# Altium integrated library TI Power Management Lighting and Display.IntLib: 745 symbols (part 7 of 48)
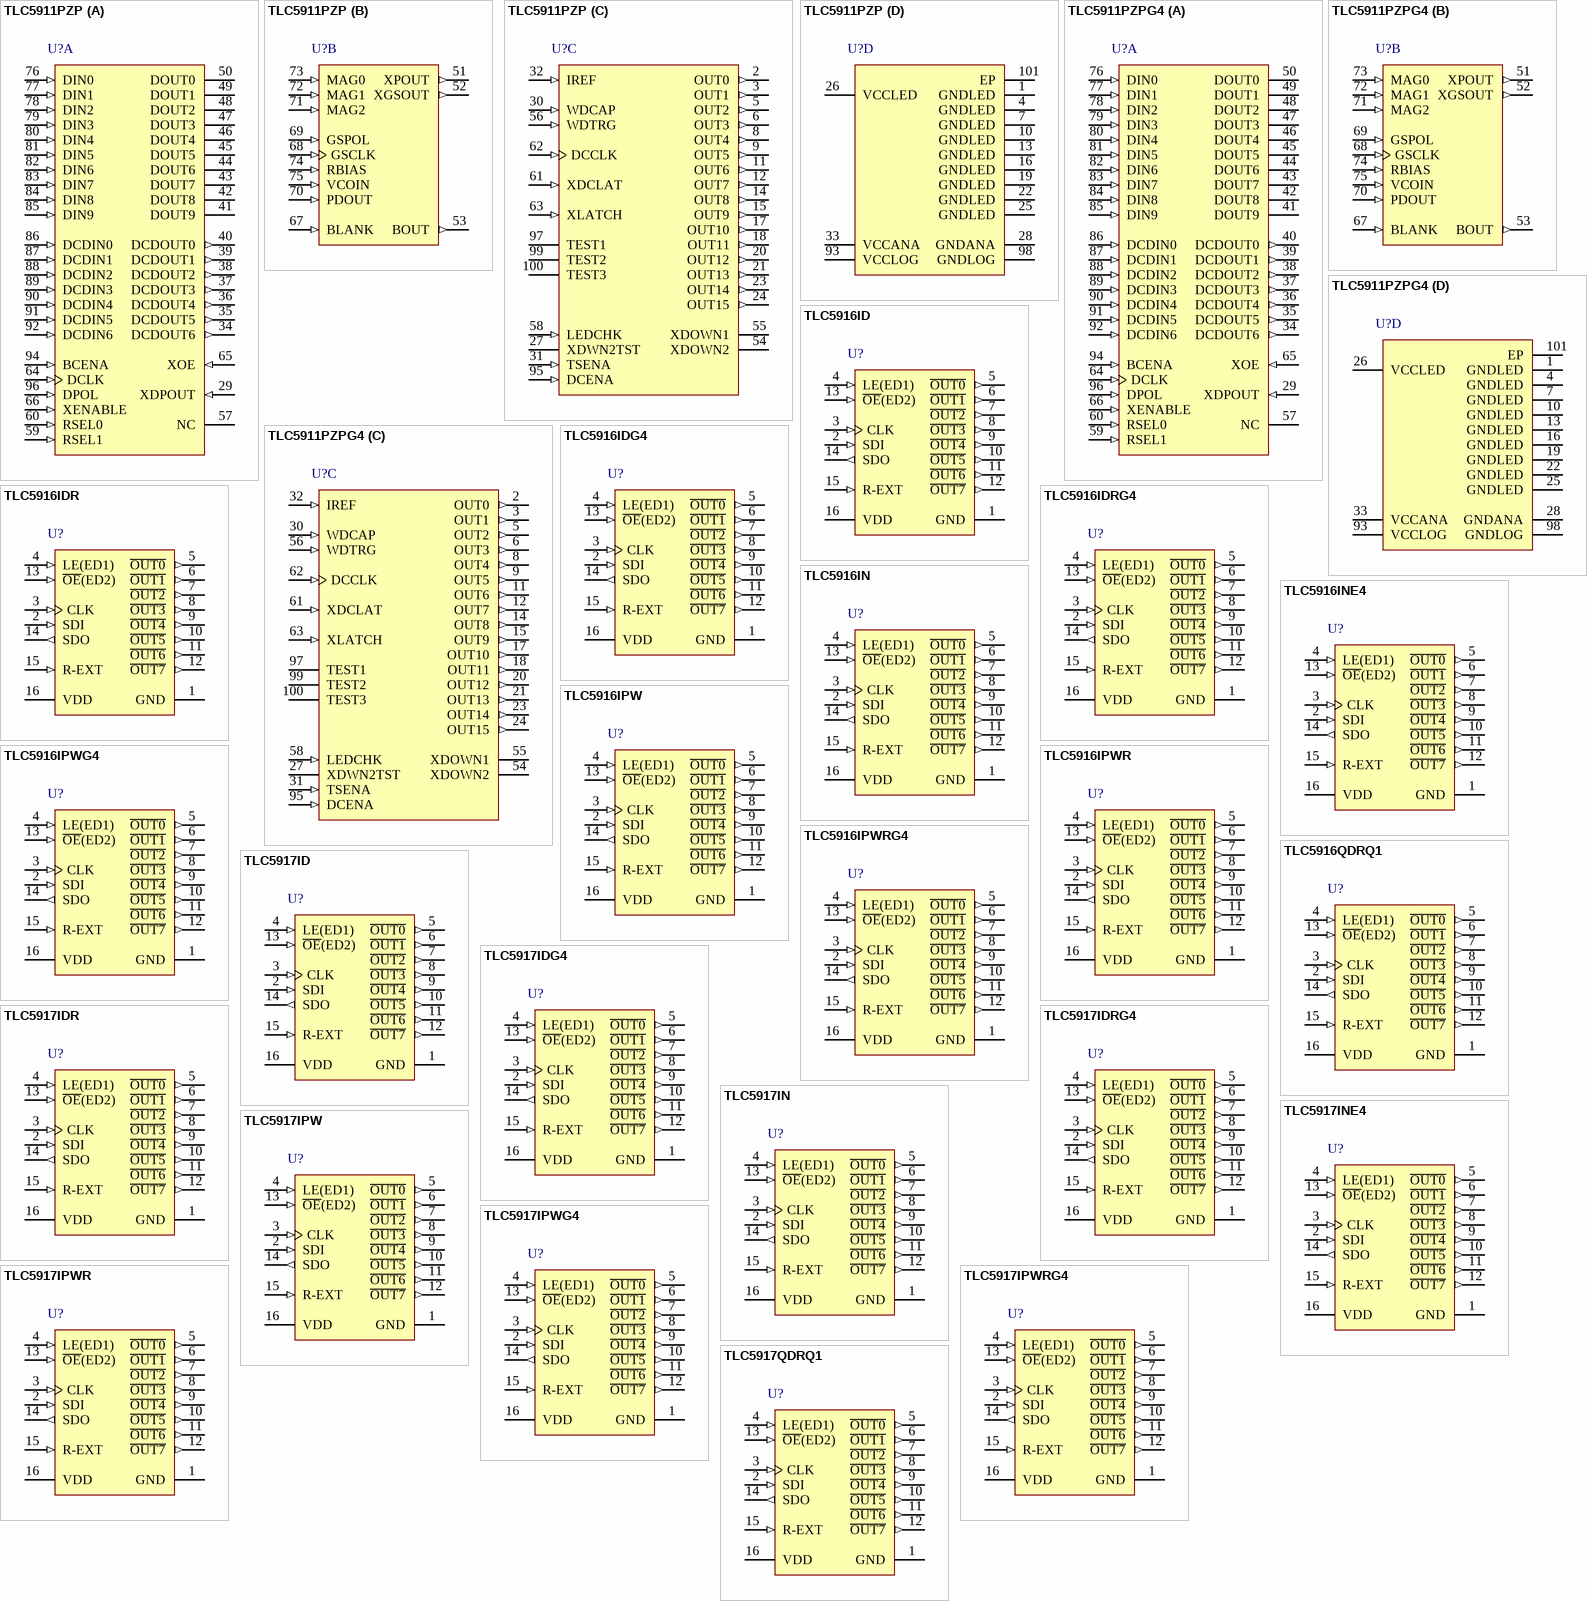
[diagram p37: symbols TLC5911PZP to TLC5917QDRQ1]

## TLC5917QDRQ1
designator U?
Automotive Catalog 8-Bit Constant-Current LED Sink Drivers, 3 to 5.5 V, -40 to 125 degC, 16-pin SOIC (D16), Green (RoHS & no Sb/Br); Manufacturer: Texas Instruments; PartNumber: TLC5917QDRQ1; Iout(Max)(A): 0.12; SubFamily: LED Driver; Vin(Max)(V): 5.5; Vin(Min)(V): 3; DatasheetVersion: SLVS814; PackageVersion: 4040047-6/M; PackageReference: D16; PackageDescription: 16-Pin Plastic Small Outline, Body 9.90 x 3.90 mm, Pitch 1.27 mm; Supplier 1: Digi-Key; Supplier Part Number 1: 296-23322-2-ND; Supplier 2: Digi-Key; Supplier Part Number 2: 296-23322-1-ND; Supplier 3: Digi-Key; Supplier Part Number 3: 296-23322-6-ND; Supplier 4: Newark; Supplier Part Number 4: 85M0146; Supplier 5: Mouser; Supplier Part Number 5: 595-TLC5917QDRQ1; Eco-Plan: Green (RoHS & no Sb/Br); Mounting Technology: Surface Mount; Code_JEDEC: MS-012; ComponentLink1Description: Manufacturer URL; ComponentLink1URL: http://www.ti.com/; ComponentLink2Description: Datasheet; ComponentLink2URL: http://www.ti.com/general/docs/lit/getliterature.tsp?genericPartNumber=TLC5917-Q1&fileType=pdf; ComponentLink3Description: Package Specification; ComponentLink3URL: http://www.ti.com/litv/pdf/mpds178g
footprint TI-D16_N (SOIC, 16-Leads, Body 9.9x3.9mm, Pitch 1.27mm, IPC Medium Density)
footprint TI-D16_L (SOIC, 16-Leads, Body 9.9x3.9mm, Pitch 1.27mm, IPC High Density)
footprint TI-D16_M (SOIC, 16-Leads, Body 9.9x3.9mm, Pitch 1.27mm, IPC Low Density)
pins: 1 GND (power) "Ground for control logic and current sink", 2 SDI (in) "Serial-data input to the Shift register", 3 CLK (in) "Clock input for data shift on rising edge", 4 LE(ED1) (in) "Data strobe input Serial data is transferred to the respective latch when LE(ED1) is high. The data is latched when LE(ED1) goes low. Also, a control signal input for an Error Detection Mode and Current Adjust Mode (see (See Datasheet)", 5 ~{OUT0} (out) "Constant-current output", 6 ~{OUT1} (out) "Constant-current output", 7 ~{OUT2} (out) "Constant-current output", 8 ~{OUT3} (out) "Constant-current output", 9 ~{OUT4} (out) "Constant-current output", 10 ~{OUT5} (out) "Constant-current output", 11 ~{OUT6} (out) "Constant-current output", 12 ~{OUT7} (out) "Constant-current output", 13 ~{OE}(ED2) (in) "Output enable. When O\E\(ED2) is active (low), the output drivers are enabled; when O\E\(ED2) is high, all output drivers are turned OFF (blanked). Also, a control signal input for an Error Detection Mode and Current Adjust (See Datasheet)", 14 SDO (out) "Serial-data output to the following SDI of next driver IC or to the microcontroller", 15 R-EXT (in) "External Resistor - Connect an external resistor to ground to set the current for all outputs", 16 VDD (power) "Supply voltage"

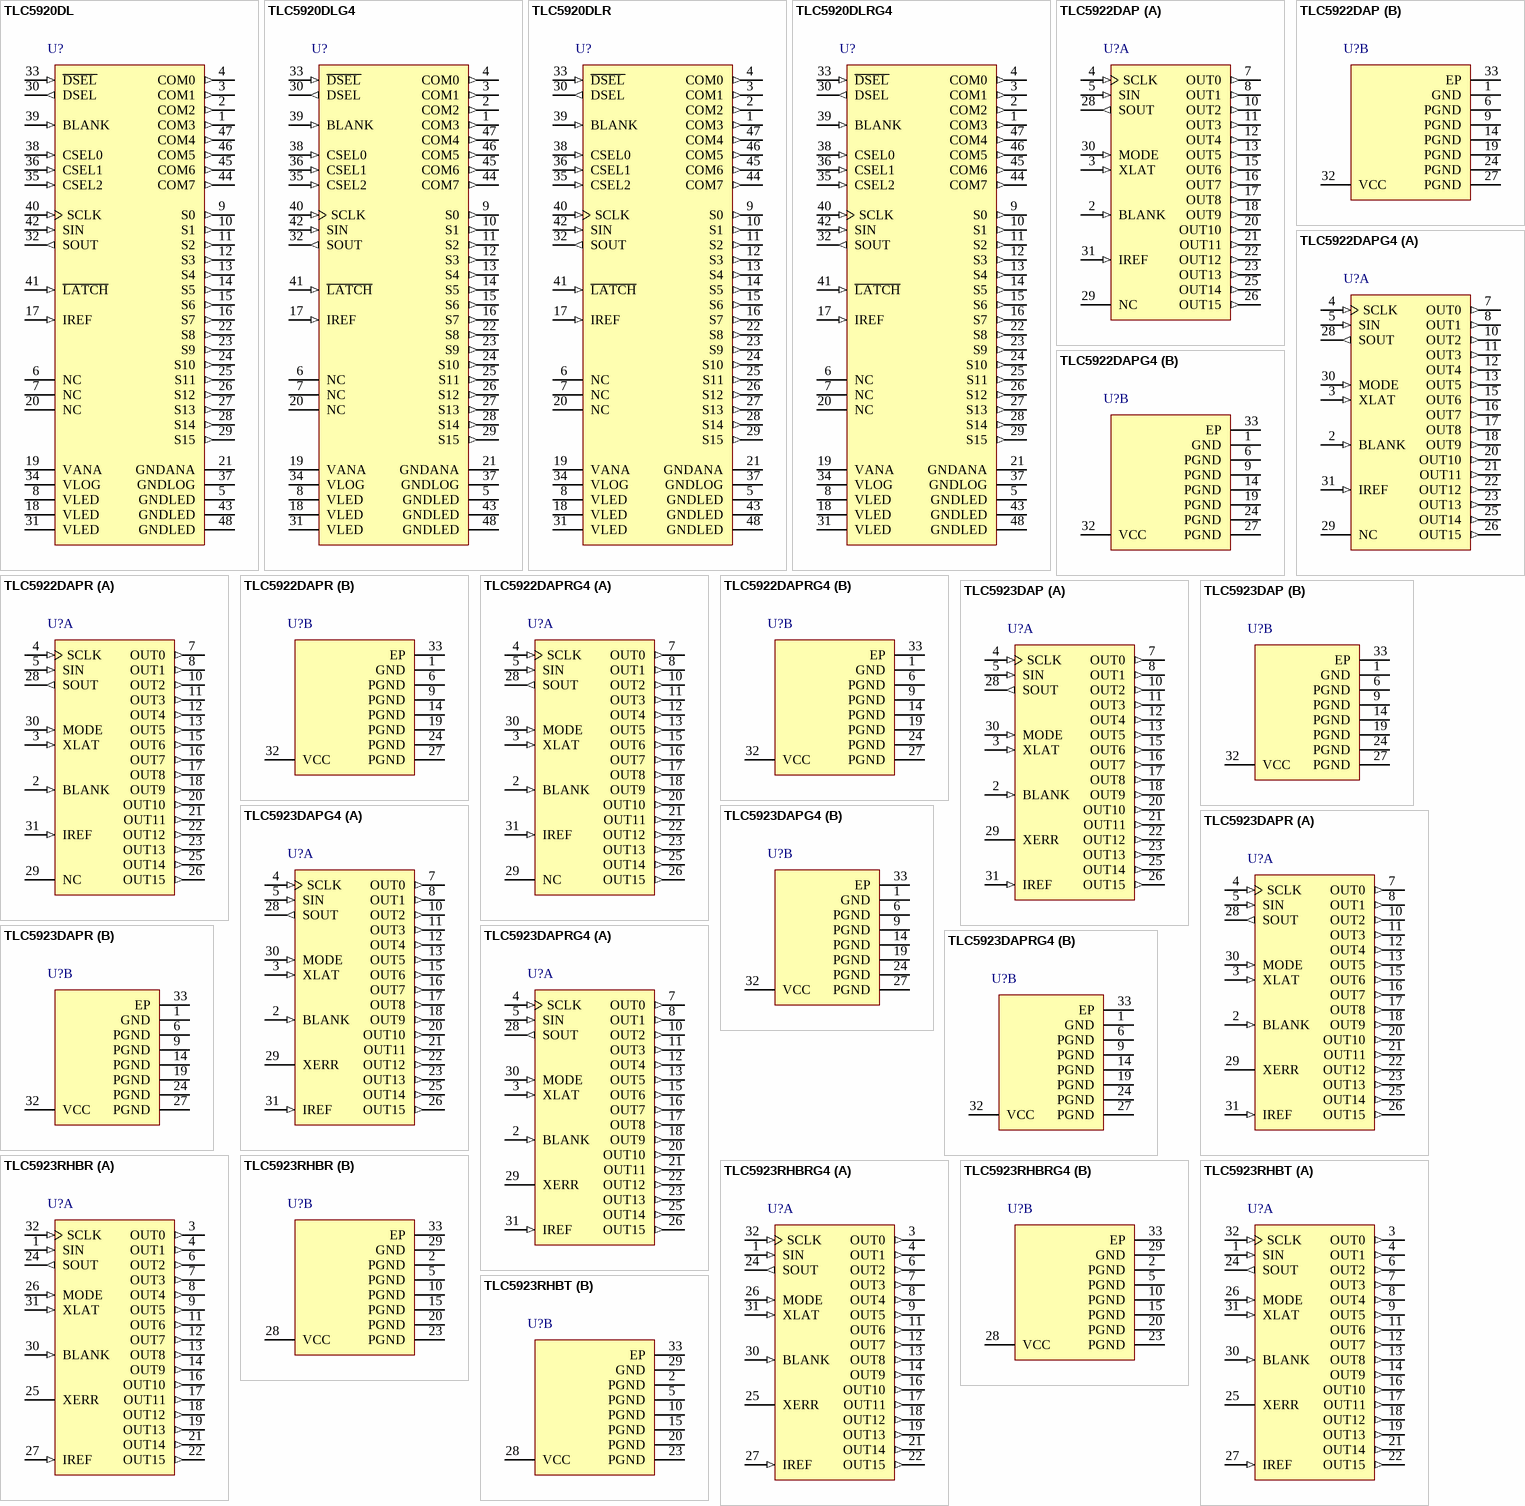
[diagram p5: symbols TLC5920DL to TLC5923RHBT]

## TLC5920DL
designator U?
16-Channel LED Driver, 4.5 to 5.5 V, -20 to 85 degC, 48-pin SOP (DL48), Green (RoHS & no Sb/Br); Manufacturer: Texas Instruments; PartNumber: TLC5920DL; Rating: Catalog; Vin(Max)(V): 5.5; Vin(Min)(V): 4.5; DatasheetVersion: SLAS264A; PackageVersion: 4040048/E; PackageReference: DL48; PackageDescription: 48-Pin Plastic Small Outline, Body 7.49 x 15.88 mm, Pitch 0.635 mm; Supplier 1: Digi-Key; Supplier Part Number 1: 296-10348-5-ND; Supplier 2: Newark; Supplier Part Number 2: 76C7480; Supplier 3: Mouser; Supplier Part Number 3: 595-TLC5920DL; Eco-Plan: Green (RoHS & no Sb/Br); SubFamily: LED Driver; Mounting Technology: Surface Mount; Code_JEDEC: MO-118; ComponentLink1Description: Manufacturer URL; ComponentLink1URL: http://www.ti.com/; ComponentLink2Description: Datasheet; ComponentLink2URL: http://www.ti.com/general/docs/lit/getliterature.tsp?genericPartNumber=TLC5920&fileType=pdf; ComponentLink3Description: Package Specification; ComponentLink3URL: http://www.ti.com/lit/ml/msso001c/msso001c.pdf
footprint TI-DL48_N (SOP, 48-Leads, Body 15.88x7.49mm, Pitch 0.635mm, IPC Medium Density)
footprint TI-DL48_L (SOP, 48-Leads, Body 15.88x7.49mm, Pitch 0.635mm, IPC High Density)
footprint TI-DL48_M (SOP, 48-Leads, Body 15.88x7.49mm, Pitch 0.635mm, IPC Low Density)
pins: 1 COM3 (out) "LED common driver output", 2 COM2 (out) "LED common driver output", 3 COM1 (out) "LED common driver output", 4 COM0 (out) "LED common driver output", 5 GNDLED (power) "LED driver ground", 6 NC, 7 NC, 8 VLED (power) "LED driver power supply voltage", 9 S0 (out) "LED segment driver output", 10 S1 (out) "LED segment driver output", 11 S2 (out) "LED segment driver output", 12 S3 (out) "LED segment driver output", 13 S4 (out) "LED segment driver output", 14 S5 (out) "LED segment driver output", 15 S6 (out) "LED segment driver output", 16 S7 (out) "LED segment driver output", 17 IREF (in) "Constanr current control setting. The LED current is set to the to the desired value by connecting an external resistor between IREF and GND.", 18 VLED (power) "LED driver power supply voltage", 19 VANA (power) "Analog power driver output", 20 NC, 21 GNDANA (power) "Analog ground", 22 S8 (out) "LED segment driver output", 23 S9 (out) "LED segment driver output", 24 S10 (out) "LED segment driver output", 25 S11 (out) "LED segment driver output", 26 S12 (out) "LED segment driver output", 27 S13 (out) "LED segment driver output", 28 S14 (out) "LED segment driver output", 29 S15 (out) "LED segment driver output", 30 DSEL (out) "Display select output.The inverted data of D\S\E\L\ is clocked out.", 31 VLED (power) "LED driver power supply voltage", 32 SOUT (out) "Serial output for display", 33 ~{DSEL} (in) "Display select.When D\S\E\L\ is high,the LED is turned off. Note that, when BLANK is high, the LED is turned off with no regard to the D\S\E\L\ input.", 34 VLOG (power) "Logic power supply voltage", 35 CSEL2 (in) "Common driver select. One terminal out of COM0 through COM7 is selected.", 36 CSEL1 (in) "Common driver select. One terminal out of COM0 through COM7 is selected.", 37 GNDLOG (power) "Logic ground", 38 CSEL0 (in) "Common driver select. One terminal out of COM0 through COM7 is selected.", 39 BLANK (in) "Blank(light off). By turning all the output for the common driver off, the LED is turned off.When BLANK is high,the LED is turned off.", 40 SCLK (in) "Synchronous clock input for serial data transfer. The input data of SIN is synchronized to the rising edge of SCLK , and transferred to SOUT .", 41 ~{LATCH} (in) "Latch.When L\A\T\C\H\ is high. data on the shift register goes through latch.When L\A\T\C\H\ is low, data is latched.", 42 SIN (in) "Serial input for display", 43 GNDLED (power) "LED driver ground", 44 COM7 (out) "LED common driver output", 45 COM6 (out) "LED common driver output", 46 COM5 (out) "LED common driver output", 47 COM4 (out) "LED common driver output", 48 GNDLED (power) "LED driver ground"

## TLC5920DLG4
designator U?
16-Channel LED Driver, 4.5 to 5.5 V, -20 to 85 degC, 48-pin SOP (DL48), Green (RoHS & no Sb/Br); Manufacturer: Texas Instruments; PartNumber: TLC5920DLG4; Rating: Catalog; Vin(Max)(V): 5.5; Vin(Min)(V): 4.5; DatasheetVersion: SLAS264A; PackageVersion: 4040048/E; PackageReference: DL48; PackageDescription: 48-Pin Plastic Small Outline, Body 7.49 x 15.88 mm, Pitch 0.635 mm; Supplier 1: Digi-Key; Supplier Part Number 1: TLC5920DLG4-ND; Supplier 2: Farnell; Supplier Part Number 2: 1226302; Supplier 3: Newark; Supplier Part Number 3: 05M1390; Supplier 4: Newark; Supplier Part Number 4: 61K1774; Supplier 5: Mouser; Supplier Part Number 5: 595-TLC5920DLG4; Eco-Plan: Green (RoHS & no Sb/Br); SubFamily: LED Driver; Mounting Technology: Surface Mount; Code_JEDEC: MO-118; ComponentLink1Description: Manufacturer URL; ComponentLink1URL: http://www.ti.com/; ComponentLink2Description: Datasheet; ComponentLink2URL: http://www.ti.com/general/docs/lit/getliterature.tsp?genericPartNumber=TLC5920&fileType=pdf; ComponentLink3Description: Package Specification; ComponentLink3URL: http://www.ti.com/lit/ml/msso001c/msso001c.pdf
footprint TI-DL48_N (SOP, 48-Leads, Body 15.88x7.49mm, Pitch 0.635mm, IPC Medium Density)
footprint TI-DL48_L (SOP, 48-Leads, Body 15.88x7.49mm, Pitch 0.635mm, IPC High Density)
footprint TI-DL48_M (SOP, 48-Leads, Body 15.88x7.49mm, Pitch 0.635mm, IPC Low Density)
pins: 1 COM3 (out) "LED common driver output", 2 COM2 (out) "LED common driver output", 3 COM1 (out) "LED common driver output", 4 COM0 (out) "LED common driver output", 5 GNDLED (power) "LED driver ground", 6 NC, 7 NC, 8 VLED (power) "LED driver power supply voltage", 9 S0 (out) "LED segment driver output", 10 S1 (out) "LED segment driver output", 11 S2 (out) "LED segment driver output", 12 S3 (out) "LED segment driver output", 13 S4 (out) "LED segment driver output", 14 S5 (out) "LED segment driver output", 15 S6 (out) "LED segment driver output", 16 S7 (out) "LED segment driver output", 17 IREF (in) "Constanr current control setting. The LED current is set to the to the desired value by connecting an external resistor between IREF and GND.", 18 VLED (power) "LED driver power supply voltage", 19 VANA (power) "Analog power driver output", 20 NC, 21 GNDANA (power) "Analog ground", 22 S8 (out) "LED segment driver output", 23 S9 (out) "LED segment driver output", 24 S10 (out) "LED segment driver output", 25 S11 (out) "LED segment driver output", 26 S12 (out) "LED segment driver output", 27 S13 (out) "LED segment driver output", 28 S14 (out) "LED segment driver output", 29 S15 (out) "LED segment driver output", 30 DSEL (out) "Display select output.The inverted data of D\S\E\L\ is clocked out.", 31 VLED (power) "LED driver power supply voltage", 32 SOUT (out) "Serial output for display", 33 ~{DSEL} (in) "Display select.When D\S\E\L\ is high,the LED is turned off. Note that, when BLANK is high, the LED is turned off with no regard to the D\S\E\L\ input.", 34 VLOG (power) "Logic power supply voltage", 35 CSEL2 (in) "Common driver select. One terminal out of COM0 through COM7 is selected.", 36 CSEL1 (in) "Common driver select. One terminal out of COM0 through COM7 is selected.", 37 GNDLOG (power) "Logic ground", 38 CSEL0 (in) "Common driver select. One terminal out of COM0 through COM7 is selected.", 39 BLANK (in) "Blank(light off). By turning all the output for the common driver off, the LED is turned off.When BLANK is high,the LED is turned off.", 40 SCLK (in) "Synchronous clock input for serial data transfer. The input data of SIN is synchronized to the rising edge of SCLK , and transferred to SOUT .", 41 ~{LATCH} (in) "Latch.When L\A\T\C\H\ is high. data on the shift register goes through latch.When L\A\T\C\H\ is low, data is latched.", 42 SIN (in) "Serial input for display", 43 GNDLED (power) "LED driver ground", 44 COM7 (out) "LED common driver output", 45 COM6 (out) "LED common driver output", 46 COM5 (out) "LED common driver output", 47 COM4 (out) "LED common driver output", 48 GNDLED (power) "LED driver ground"

## TLC5920DLR
designator U?
16-Channel LED Driver, 4.5 to 5.5 V, -20 to 85 degC, 48-pin SOP (DL48), Green (RoHS & no Sb/Br); Manufacturer: Texas Instruments; PartNumber: TLC5920DLR; Rating: Catalog; Vin(Max)(V): 5.5; Vin(Min)(V): 4.5; DatasheetVersion: SLAS264A; PackageVersion: 4040048/E; PackageReference: DL48; PackageDescription: 48-Pin Plastic Small Outline, Body 7.49 x 15.88 mm, Pitch 0.635 mm; Supplier 1: Digi-Key; Supplier Part Number 1: TLC5920DLR-ND; Supplier 2: Newark; Supplier Part Number 2: 76C7481; Supplier 3: Mouser; Supplier Part Number 3: 595-TLC5920DLR; Eco-Plan: Green (RoHS & no Sb/Br); SubFamily: LED Driver; Mounting Technology: Surface Mount; Code_JEDEC: MO-118; ComponentLink1Description: Manufacturer URL; ComponentLink1URL: http://www.ti.com/; ComponentLink2Description: Datasheet; ComponentLink2URL: http://www.ti.com/general/docs/lit/getliterature.tsp?genericPartNumber=TLC5920&fileType=pdf; ComponentLink3Description: Package Specification; ComponentLink3URL: http://www.ti.com/lit/ml/msso001c/msso001c.pdf
footprint TI-DL48_N (SOP, 48-Leads, Body 15.88x7.49mm, Pitch 0.635mm, IPC Medium Density)
footprint TI-DL48_L (SOP, 48-Leads, Body 15.88x7.49mm, Pitch 0.635mm, IPC High Density)
footprint TI-DL48_M (SOP, 48-Leads, Body 15.88x7.49mm, Pitch 0.635mm, IPC Low Density)
pins: 1 COM3 (out) "LED common driver output", 2 COM2 (out) "LED common driver output", 3 COM1 (out) "LED common driver output", 4 COM0 (out) "LED common driver output", 5 GNDLED (power) "LED driver ground", 6 NC, 7 NC, 8 VLED (power) "LED driver power supply voltage", 9 S0 (out) "LED segment driver output", 10 S1 (out) "LED segment driver output", 11 S2 (out) "LED segment driver output", 12 S3 (out) "LED segment driver output", 13 S4 (out) "LED segment driver output", 14 S5 (out) "LED segment driver output", 15 S6 (out) "LED segment driver output", 16 S7 (out) "LED segment driver output", 17 IREF (in) "Constanr current control setting. The LED current is set to the to the desired value by connecting an external resistor between IREF and GND.", 18 VLED (power) "LED driver power supply voltage", 19 VANA (power) "Analog power driver output", 20 NC, 21 GNDANA (power) "Analog ground", 22 S8 (out) "LED segment driver output", 23 S9 (out) "LED segment driver output", 24 S10 (out) "LED segment driver output", 25 S11 (out) "LED segment driver output", 26 S12 (out) "LED segment driver output", 27 S13 (out) "LED segment driver output", 28 S14 (out) "LED segment driver output", 29 S15 (out) "LED segment driver output", 30 DSEL (out) "Display select output.The inverted data of D\S\E\L\ is clocked out.", 31 VLED (power) "LED driver power supply voltage", 32 SOUT (out) "Serial output for display", 33 ~{DSEL} (in) "Display select.When D\S\E\L\ is high,the LED is turned off. Note that, when BLANK is high, the LED is turned off with no regard to the D\S\E\L\ input.", 34 VLOG (power) "Logic power supply voltage", 35 CSEL2 (in) "Common driver select. One terminal out of COM0 through COM7 is selected.", 36 CSEL1 (in) "Common driver select. One terminal out of COM0 through COM7 is selected.", 37 GNDLOG (power) "Logic ground", 38 CSEL0 (in) "Common driver select. One terminal out of COM0 through COM7 is selected.", 39 BLANK (in) "Blank(light off). By turning all the output for the common driver off, the LED is turned off.When BLANK is high,the LED is turned off.", 40 SCLK (in) "Synchronous clock input for serial data transfer. The input data of SIN is synchronized to the rising edge of SCLK , and transferred to SOUT .", 41 ~{LATCH} (in) "Latch.When L\A\T\C\H\ is high. data on the shift register goes through latch.When L\A\T\C\H\ is low, data is latched.", 42 SIN (in) "Serial input for display", 43 GNDLED (power) "LED driver ground", 44 COM7 (out) "LED common driver output", 45 COM6 (out) "LED common driver output", 46 COM5 (out) "LED common driver output", 47 COM4 (out) "LED common driver output", 48 GNDLED (power) "LED driver ground"

## TLC5920DLRG4
designator U?
16-Channel LED Driver, 4.5 to 5.5 V, -20 to 85 degC, 48-pin SOP (DL48), Green (RoHS & no Sb/Br); Manufacturer: Texas Instruments; PartNumber: TLC5920DLRG4; Rating: Catalog; Vin(Max)(V): 5.5; Vin(Min)(V): 4.5; DatasheetVersion: SLAS264A; PackageVersion: 4040048/E; PackageReference: DL48; PackageDescription: 48-Pin Plastic Small Outline, Body 7.49 x 15.88 mm, Pitch 0.635 mm; Supplier 1: Digi-Key; Supplier Part Number 1: TLC5920DLRG4-ND; Supplier 2: Newark; Supplier Part Number 2: 24K5343; Supplier 3: Mouser; Supplier Part Number 3: 595-TLC5920DLRG4; Eco-Plan: Green (RoHS & no Sb/Br); SubFamily: LED Driver; Mounting Technology: Surface Mount; Code_JEDEC: MO-118; ComponentLink1Description: Manufacturer URL; ComponentLink1URL: http://www.ti.com/; ComponentLink2Description: Datasheet; ComponentLink2URL: http://www.ti.com/general/docs/lit/getliterature.tsp?genericPartNumber=TLC5920&fileType=pdf; ComponentLink3Description: Package Specification; ComponentLink3URL: http://www.ti.com/lit/ml/msso001c/msso001c.pdf
footprint TI-DL48_N (SOP, 48-Leads, Body 15.88x7.49mm, Pitch 0.635mm, IPC Medium Density)
footprint TI-DL48_L (SOP, 48-Leads, Body 15.88x7.49mm, Pitch 0.635mm, IPC High Density)
footprint TI-DL48_M (SOP, 48-Leads, Body 15.88x7.49mm, Pitch 0.635mm, IPC Low Density)
pins: 1 COM3 (out) "LED common driver output", 2 COM2 (out) "LED common driver output", 3 COM1 (out) "LED common driver output", 4 COM0 (out) "LED common driver output", 5 GNDLED (power) "LED driver ground", 6 NC, 7 NC, 8 VLED (power) "LED driver power supply voltage", 9 S0 (out) "LED segment driver output", 10 S1 (out) "LED segment driver output", 11 S2 (out) "LED segment driver output", 12 S3 (out) "LED segment driver output", 13 S4 (out) "LED segment driver output", 14 S5 (out) "LED segment driver output", 15 S6 (out) "LED segment driver output", 16 S7 (out) "LED segment driver output", 17 IREF (in) "Constanr current control setting. The LED current is set to the to the desired value by connecting an external resistor between IREF and GND.", 18 VLED (power) "LED driver power supply voltage", 19 VANA (power) "Analog power driver output", 20 NC, 21 GNDANA (power) "Analog ground", 22 S8 (out) "LED segment driver output", 23 S9 (out) "LED segment driver output", 24 S10 (out) "LED segment driver output", 25 S11 (out) "LED segment driver output", 26 S12 (out) "LED segment driver output", 27 S13 (out) "LED segment driver output", 28 S14 (out) "LED segment driver output", 29 S15 (out) "LED segment driver output", 30 DSEL (out) "Display select output.The inverted data of D\S\E\L\ is clocked out.", 31 VLED (power) "LED driver power supply voltage", 32 SOUT (out) "Serial output for display", 33 ~{DSEL} (in) "Display select.When D\S\E\L\ is high,the LED is turned off. Note that, when BLANK is high, the LED is turned off with no regard to the D\S\E\L\ input.", 34 VLOG (power) "Logic power supply voltage", 35 CSEL2 (in) "Common driver select. One terminal out of COM0 through COM7 is selected.", 36 CSEL1 (in) "Common driver select. One terminal out of COM0 through COM7 is selected.", 37 GNDLOG (power) "Logic ground", 38 CSEL0 (in) "Common driver select. One terminal out of COM0 through COM7 is selected.", 39 BLANK (in) "Blank(light off). By turning all the output for the common driver off, the LED is turned off.When BLANK is high,the LED is turned off.", 40 SCLK (in) "Synchronous clock input for serial data transfer. The input data of SIN is synchronized to the rising edge of SCLK , and transferred to SOUT .", 41 ~{LATCH} (in) "Latch.When L\A\T\C\H\ is high. data on the shift register goes through latch.When L\A\T\C\H\ is low, data is latched.", 42 SIN (in) "Serial input for display", 43 GNDLED (power) "LED driver ground", 44 COM7 (out) "LED common driver output", 45 COM6 (out) "LED common driver output", 46 COM5 (out) "LED common driver output", 47 COM4 (out) "LED common driver output", 48 GNDLED (power) "LED driver ground"

## TLC5922DAP
designator U?
16-Channel LED Driver with DOT Correction, 3 to 5.5 V, -20 to 85 degC, 32-pin SOP (DAP32), Green (RoHS & no Sb/Br); Manufacturer: Texas Instruments; PartNumber: TLC5922DAP; Rating: Catalog; Vin(Max)(V): 5.5; Vin(Min)(V): 3; DatasheetVersion: SLVS486B; PackageVersion: 4073257-4/E; PackageReference: DAP32-3810X3710TP; PackageDescription: 32-pin Plastic Small Outline, Body 11 x 6.1 mm, Pitch 0.65 mm; Supplier 1: Digi-Key; Supplier Part Number 1: 296-15843-5-ND; Supplier 2: Newark; Supplier Part Number 2: 87H2801; Supplier 3: Mouser; Supplier Part Number 3: 595-TLC5922DAP; Eco-Plan: Green (RoHS & no Sb/Br); SubFamily: LED Driver; Mounting Technology: Surface Mount; Code_JEDEC: MO-153; ComponentLink1Description: Manufacturer URL; ComponentLink1URL: http://www.ti.com/; ComponentLink2Description: Datasheet; ComponentLink2URL: http://www.ti.com/general/docs/lit/getliterature.tsp?genericPartNumber=TLC5922&fileType=pdf; ComponentLink3Description: Package Specification; ComponentLink3URL: http://www.ti.com/litv/pdf/mpds380
footprint TI-DAP32-3810X3710TP_N (SOIC, 32-Leads, Body 11x6.1mm, Pitch 0.65mm, Thermal Pad 3.71 x3.81mm, IPC Medium Density)
footprint TI-DAP32-3810X3710TP_L (SOIC, 32-Leads, Body 11x6.1mm, Pitch 0.65mm, Thermal Pad 3.71 x3.81mm, IPC High Density)
footprint TI-DAP32-3810X3710TP_M (SOIC, 32-Leads, Body 11x6.1mm, Pitch 0.65mm, Thermal Pad 3.71 x3.81mm, IPC Low Density)
part A pins: 2 BLANK (in) "Blank (Light OFF). When BLANK = H, All OUTx outputs are forced OFF. When BLANK = L,ON/OFF of OUTx outputs are controlled by input data.", 3 XLAT (in) "Data latch. Note that the internal connections are switched by MODE (pin #30). At rising edge of XLAT, the latches selected by MODE get new data.", 4 SCLK (in) "Data shift clock. Note that the internal connections are switched by MODE (pin #30). At rising edge of SCLK, the shift-registers selected by MODE shift the data.", 5 SIN (in) "Data input of serial I/F", 7 OUT0 (out) "Constant current output", 8 OUT1 (out) "Constant current output", 10 OUT2 (out) "Constant current output", 11 OUT3 (out) "Constant current output", 12 OUT4 (out) "Constant current output", 13 OUT5 (out) "Constant current output", 15 OUT6 (out) "Constant current output", 16 OUT7 (out) "Constant current output", 17 OUT8 (out) "Constant current output", 18 OUT9 (out) "Constant current output", 20 OUT10 (out) "Constant current output", 21 OUT11 (out) "Constant current output", 22 OUT12 (out) "Constant current output", 23 OUT13 (out) "Constant current output", 25 OUT14 (out) "Constant current output", 26 OUT15 (out) "Constant current output", 28 SOUT (out) "Data output of serial I/F", 29 NC "Not Connected", 30 MODE (in) "Mode select. When MODE = L, SIN, SOUT, SCLK, XLAT are connected to ON/OFF control logic. When MODE = H, SIN, SOUT, SCLK, XLAT are connected to dot-correction logic.", 31 IREF (in) "Reference current terminal"
part B pins: 1 GND (power) "Ground", 6 PGND (power) "Power ground", 9 PGND (power) "Power ground", 14 PGND (power) "Power ground", 19 PGND (power) "Power ground", 24 PGND (power) "Power ground", 27 PGND (power) "Power ground", 32 VCC (power) "Power supply voltage", 33 EP (power) "Exposed thermal pad"

## TLC5922DAPG4
designator U?
16-Channel LED Driver with DOT Correction, 3 to 5.5 V, -20 to 85 degC, 32-pin SOP (DAP32), Green (RoHS & no Sb/Br); Manufacturer: Texas Instruments; PartNumber: TLC5922DAPG4; Rating: Catalog; Vin(Max)(V): 5.5; Vin(Min)(V): 3; DatasheetVersion: SLVS486B; PackageVersion: 4073257-4/E; PackageReference: DAP32-3810X3710TP; PackageDescription: 32-pin Plastic Small Outline, Body 11 x 6.1 mm, Pitch 0.65 mm; Supplier 1: Digi-Key; Supplier Part Number 1: TLC5922DAPG4-ND; Supplier 2: Farnell; Supplier Part Number 2: 1226303; Supplier 3: Newark; Supplier Part Number 3: 05M1391; Supplier 4: Mouser; Supplier Part Number 4: 595-TLC5922DAPG4; Eco-Plan: Green (RoHS & no Sb/Br); SubFamily: LED Driver; Mounting Technology: Surface Mount; Code_JEDEC: MO-153; ComponentLink1Description: Manufacturer URL; ComponentLink1URL: http://www.ti.com/; ComponentLink2Description: Datasheet; ComponentLink2URL: http://www.ti.com/general/docs/lit/getliterature.tsp?genericPartNumber=TLC5922&fileType=pdf; ComponentLink3Description: Package Specification; ComponentLink3URL: http://www.ti.com/litv/pdf/mpds380
footprint TI-DAP32-3810X3710TP_N (SOIC, 32-Leads, Body 11x6.1mm, Pitch 0.65mm, Thermal Pad 3.71 x3.81mm, IPC Medium Density)
footprint TI-DAP32-3810X3710TP_L (SOIC, 32-Leads, Body 11x6.1mm, Pitch 0.65mm, Thermal Pad 3.71 x3.81mm, IPC High Density)
footprint TI-DAP32-3810X3710TP_M (SOIC, 32-Leads, Body 11x6.1mm, Pitch 0.65mm, Thermal Pad 3.71 x3.81mm, IPC Low Density)
part A pins: 2 BLANK (in) "Blank (Light OFF). When BLANK = H, All OUTx outputs are forced OFF. When BLANK = L,ON/OFF of OUTx outputs are controlled by input data.", 3 XLAT (in) "Data latch. Note that the internal connections are switched by MODE (pin #30). At rising edge of XLAT, the latches selected by MODE get new data.", 4 SCLK (in) "Data shift clock. Note that the internal connections are switched by MODE (pin #30). At rising edge of SCLK, the shift-registers selected by MODE shift the data.", 5 SIN (in) "Data input of serial I/F", 7 OUT0 (out) "Constant current output", 8 OUT1 (out) "Constant current output", 10 OUT2 (out) "Constant current output", 11 OUT3 (out) "Constant current output", 12 OUT4 (out) "Constant current output", 13 OUT5 (out) "Constant current output", 15 OUT6 (out) "Constant current output", 16 OUT7 (out) "Constant current output", 17 OUT8 (out) "Constant current output", 18 OUT9 (out) "Constant current output", 20 OUT10 (out) "Constant current output", 21 OUT11 (out) "Constant current output", 22 OUT12 (out) "Constant current output", 23 OUT13 (out) "Constant current output", 25 OUT14 (out) "Constant current output", 26 OUT15 (out) "Constant current output", 28 SOUT (out) "Data output of serial I/F", 29 NC "Not Connected", 30 MODE (in) "Mode select. When MODE = L, SIN, SOUT, SCLK, XLAT are connected to ON/OFF control logic. When MODE = H, SIN, SOUT, SCLK, XLAT are connected to dot-correction logic.", 31 IREF (in) "Reference current terminal"
part B pins: 1 GND (power) "Ground", 6 PGND (power) "Power ground", 9 PGND (power) "Power ground", 14 PGND (power) "Power ground", 19 PGND (power) "Power ground", 24 PGND (power) "Power ground", 27 PGND (power) "Power ground", 32 VCC (power) "Power supply voltage", 33 EP (power) "Exposed thermal pad"

## TLC5922DAPR
designator U?
16-Channel LED Driver with DOT Correction, 3 to 5.5 V, -20 to 85 degC, 32-pin SOP (DAP32), Green (RoHS & no Sb/Br); Manufacturer: Texas Instruments; PartNumber: TLC5922DAPR; Rating: Catalog; Vin(Max)(V): 5.5; Vin(Min)(V): 3; DatasheetVersion: SLVS486B; PackageVersion: 4073257-4/E; PackageReference: DAP32-3810X3710TP; PackageDescription: 32-pin Plastic Small Outline, Body 11 x 6.1 mm, Pitch 0.65 mm; Supplier 1: Digi-Key; Supplier Part Number 1: TLC5922DAPR-ND; Supplier 2: Newark; Supplier Part Number 2: 87H2802; Supplier 3: Mouser; Supplier Part Number 3: 595-TLC5922DAPR; Eco-Plan: Green (RoHS & no Sb/Br); SubFamily: LED Driver; Mounting Technology: Surface Mount; Code_JEDEC: MO-153; ComponentLink1Description: Manufacturer URL; ComponentLink1URL: http://www.ti.com/; ComponentLink2Description: Datasheet; ComponentLink2URL: http://www.ti.com/general/docs/lit/getliterature.tsp?genericPartNumber=TLC5922&fileType=pdf; ComponentLink3Description: Package Specification; ComponentLink3URL: http://www.ti.com/litv/pdf/mpds380
footprint TI-DAP32-3810X3710TP_N (SOIC, 32-Leads, Body 11x6.1mm, Pitch 0.65mm, Thermal Pad 3.71 x3.81mm, IPC Medium Density)
footprint TI-DAP32-3810X3710TP_L (SOIC, 32-Leads, Body 11x6.1mm, Pitch 0.65mm, Thermal Pad 3.71 x3.81mm, IPC High Density)
footprint TI-DAP32-3810X3710TP_M (SOIC, 32-Leads, Body 11x6.1mm, Pitch 0.65mm, Thermal Pad 3.71 x3.81mm, IPC Low Density)
part A pins: 2 BLANK (in) "Blank (Light OFF). When BLANK = H, All OUTx outputs are forced OFF. When BLANK = L,ON/OFF of OUTx outputs are controlled by input data.", 3 XLAT (in) "Data latch. Note that the internal connections are switched by MODE (pin #30). At rising edge of XLAT, the latches selected by MODE get new data.", 4 SCLK (in) "Data shift clock. Note that the internal connections are switched by MODE (pin #30). At rising edge of SCLK, the shift-registers selected by MODE shift the data.", 5 SIN (in) "Data input of serial I/F", 7 OUT0 (out) "Constant current output", 8 OUT1 (out) "Constant current output", 10 OUT2 (out) "Constant current output", 11 OUT3 (out) "Constant current output", 12 OUT4 (out) "Constant current output", 13 OUT5 (out) "Constant current output", 15 OUT6 (out) "Constant current output", 16 OUT7 (out) "Constant current output", 17 OUT8 (out) "Constant current output", 18 OUT9 (out) "Constant current output", 20 OUT10 (out) "Constant current output", 21 OUT11 (out) "Constant current output", 22 OUT12 (out) "Constant current output", 23 OUT13 (out) "Constant current output", 25 OUT14 (out) "Constant current output", 26 OUT15 (out) "Constant current output", 28 SOUT (out) "Data output of serial I/F", 29 NC "Not Connected", 30 MODE (in) "Mode select. When MODE = L, SIN, SOUT, SCLK, XLAT are connected to ON/OFF control logic. When MODE = H, SIN, SOUT, SCLK, XLAT are connected to dot-correction logic.", 31 IREF (in) "Reference current terminal"
part B pins: 1 GND (power) "Ground", 6 PGND (power) "Power ground", 9 PGND (power) "Power ground", 14 PGND (power) "Power ground", 19 PGND (power) "Power ground", 24 PGND (power) "Power ground", 27 PGND (power) "Power ground", 32 VCC (power) "Power supply voltage", 33 EP (power) "Exposed thermal pad"

## TLC5922DAPRG4
designator U?
16-Channel LED Driver with DOT Correction, 3 to 5.5 V, -20 to 85 degC, 32-pin SOP (DAP32), Green (RoHS & no Sb/Br); Manufacturer: Texas Instruments; PartNumber: TLC5922DAPRG4; Rating: Catalog; Vin(Max)(V): 5.5; Vin(Min)(V): 3; DatasheetVersion: SLVS486B; PackageVersion: 4073257-4/E; PackageReference: DAP32-3810X3710TP; PackageDescription: 32-pin Plastic Small Outline, Body 11 x 6.1 mm, Pitch 0.65 mm; Supplier 1: Digi-Key; Supplier Part Number 1: TLC5922DAPRG4-ND; Supplier 2: Newark; Supplier Part Number 2: 33K7158; Supplier 3: Mouser; Supplier Part Number 3: 595-TLC5922DAPRG4; Eco-Plan: Green (RoHS & no Sb/Br); SubFamily: LED Driver; Mounting Technology: Surface Mount; Code_JEDEC: MO-153; ComponentLink1Description: Manufacturer URL; ComponentLink1URL: http://www.ti.com/; ComponentLink2Description: Datasheet; ComponentLink2URL: http://www.ti.com/general/docs/lit/getliterature.tsp?genericPartNumber=TLC5922&fileType=pdf; ComponentLink3Description: Package Specification; ComponentLink3URL: http://www.ti.com/litv/pdf/mpds380
footprint TI-DAP32-3810X3710TP_N (SOIC, 32-Leads, Body 11x6.1mm, Pitch 0.65mm, Thermal Pad 3.71 x3.81mm, IPC Medium Density)
footprint TI-DAP32-3810X3710TP_L (SOIC, 32-Leads, Body 11x6.1mm, Pitch 0.65mm, Thermal Pad 3.71 x3.81mm, IPC High Density)
footprint TI-DAP32-3810X3710TP_M (SOIC, 32-Leads, Body 11x6.1mm, Pitch 0.65mm, Thermal Pad 3.71 x3.81mm, IPC Low Density)
part A pins: 2 BLANK (in) "Blank (Light OFF). When BLANK = H, All OUTx outputs are forced OFF. When BLANK = L,ON/OFF of OUTx outputs are controlled by input data.", 3 XLAT (in) "Data latch. Note that the internal connections are switched by MODE (pin #30). At rising edge of XLAT, the latches selected by MODE get new data.", 4 SCLK (in) "Data shift clock. Note that the internal connections are switched by MODE (pin #30). At rising edge of SCLK, the shift-registers selected by MODE shift the data.", 5 SIN (in) "Data input of serial I/F", 7 OUT0 (out) "Constant current output", 8 OUT1 (out) "Constant current output", 10 OUT2 (out) "Constant current output", 11 OUT3 (out) "Constant current output", 12 OUT4 (out) "Constant current output", 13 OUT5 (out) "Constant current output", 15 OUT6 (out) "Constant current output", 16 OUT7 (out) "Constant current output", 17 OUT8 (out) "Constant current output", 18 OUT9 (out) "Constant current output", 20 OUT10 (out) "Constant current output", 21 OUT11 (out) "Constant current output", 22 OUT12 (out) "Constant current output", 23 OUT13 (out) "Constant current output", 25 OUT14 (out) "Constant current output", 26 OUT15 (out) "Constant current output", 28 SOUT (out) "Data output of serial I/F", 29 NC "Not Connected", 30 MODE (in) "Mode select. When MODE = L, SIN, SOUT, SCLK, XLAT are connected to ON/OFF control logic. When MODE = H, SIN, SOUT, SCLK, XLAT are connected to dot-correction logic.", 31 IREF (in) "Reference current terminal"
part B pins: 1 GND (power) "Ground", 6 PGND (power) "Power ground", 9 PGND (power) "Power ground", 14 PGND (power) "Power ground", 19 PGND (power) "Power ground", 24 PGND (power) "Power ground", 27 PGND (power) "Power ground", 32 VCC (power) "Power supply voltage", 33 EP (power) "Exposed thermal pad"

## TLC5923DAP
designator U?
16-Channel LED Driver with DOT Correction, 3 to 5.5 V, -40 to 85 degC, 32-pin SOP (DAP32), Green (RoHS & no Sb/Br); Manufacturer: Texas Instruments; PartNumber: TLC5923DAP; Rating: Catalog; Vin(Max)(V): 5.5; Vin(Min)(V): 3; DatasheetVersion: SLVS550A; PackageVersion: 4073257-4/E; PackageReference: DAP32-3810X3710TP; PackageDescription: 32-pin Plastic Small Outline, Body 11 x 6.1 mm, Pitch 0.65 mm; Supplier 1: Digi-Key; Supplier Part Number 1: 296-17731-5-ND; Supplier 2: Farnell; Supplier Part Number 2: 1564906; Supplier 3: Newark; Supplier Part Number 3: 08K4864; Supplier 4: Mouser; Supplier Part Number 4: 595-TLC5923DAP; Eco-Plan: Green (RoHS & no Sb/Br); SubFamily: LED Driver; Mounting Technology: Surface Mount; Code_JEDEC: MO-153; ComponentLink1Description: Manufacturer URL; ComponentLink1URL: http://www.ti.com/; ComponentLink2Description: Datasheet; ComponentLink2URL: http://www.ti.com/general/docs/lit/getliterature.tsp?genericPartNumber=TLC5923&fileType=pdf; ComponentLink3Description: Package Specification; ComponentLink3URL: http://www.ti.com/litv/pdf/mpds380
footprint TI-DAP32-3810X3710TP_N (SOIC, 32-Leads, Body 11x6.1mm, Pitch 0.65mm, Thermal Pad 3.71 x3.81mm, IPC Medium Density)
footprint TI-DAP32-3810X3710TP_L (SOIC, 32-Leads, Body 11x6.1mm, Pitch 0.65mm, Thermal Pad 3.71 x3.81mm, IPC High Density)
footprint TI-DAP32-3810X3710TP_M (SOIC, 32-Leads, Body 11x6.1mm, Pitch 0.65mm, Thermal Pad 3.71 x3.81mm, IPC Low Density)
part A pins: 2 BLANK (in) "Blank (Light OFF). When BLANK=H, All OUTx outputs are forced OFF. When BLANK=L, ON/OFF of OUTx outputs are controlled by input data.", 3 XLAT (in) "Data latch. Note that the internal connections are switched by MODE (pin #30). At rising edge of XLAT, the latches selected by MODE get new data.", 4 SCLK (in) "Data shift clock. Note that the internal connections are switched by MODE (pin #30). At rising edge of XLAT, the shift-registers selected by MODE shift the data.", 5 SIN (in) "Data input of serial I/F", 7 OUT0 (out) "Constant current output", 8 OUT1 (out) "Constant current output", 10 OUT2 (out) "Constant current output", 11 OUT3 (out) "Constant current output", 12 OUT4 (out) "Constant current output", 13 OUT5 (out) "Constant current output", 15 OUT6 (out) "Constant current output", 16 OUT7 (out) "Constant current output", 17 OUT8 (out) "Constant current output", 18 OUT9 (out) "Constant current output", 20 OUT10 (out) "Constant current output", 21 OUT11 (out) "Constant current output", 22 OUT12 (out) "Constant current output", 23 OUT13 (out) "Constant current output", 25 OUT14 (out) "Constant current output", 26 OUT15 (out) "Constant current output", 28 SOUT (out) "Data output of serial I/F", 29 XERR (oc) "Error output. XERR is open drain terminal. XERR transistions from H to L when LOD or TEF detected.", 30 MODE (in) "Mode select. When MODE=L, SIN, SOUT, SCLK, XLAT are connected to ON/OFF control logic. When MODE=H, SIN, SOUT, SCLK, XLAT are connected to dot-correction logic.", 31 IREF (in) "Reference current terminal"
part B pins: 1 GND (power) "Ground", 6 PGND (power) "Power ground", 9 PGND (power) "Power ground", 14 PGND (power) "Power ground", 19 PGND (power) "Power ground", 24 PGND (power) "Power ground", 27 PGND (power) "Power ground", 32 VCC (power) "Power supply voltage", 33 EP

## TLC5923DAPG4
designator U?
16-Channel LED Driver with DOT Correction, 3 to 5.5 V, -40 to 85 degC, 32-pin SOP (DAP32), Green (RoHS & no Sb/Br); Manufacturer: Texas Instruments; PartNumber: TLC5923DAPG4; Rating: Catalog; Vin(Max)(V): 5.5; Vin(Min)(V): 3; DatasheetVersion: SLVS550A; PackageVersion: 4073257-4/E; PackageReference: DAP32-3810X3710TP; PackageDescription: 32-pin Plastic Small Outline, Body 11 x 6.1 mm, Pitch 0.65 mm; Supplier 1: Digi-Key; Supplier Part Number 1: TLC5923DAPG4-ND; Supplier 2: Farnell; Supplier Part Number 2: 1226304; Supplier 3: Newark; Supplier Part Number 3: 05M1392; Supplier 4: Newark; Supplier Part Number 4: 54K1021; Supplier 5: Mouser; Supplier Part Number 5: 595-TLC5923DAPG4; Eco-Plan: Green (RoHS & no Sb/Br); SubFamily: LED Driver; Mounting Technology: Surface Mount; Code_JEDEC: MO-153; ComponentLink1Description: Manufacturer URL; ComponentLink1URL: http://www.ti.com/; ComponentLink2Description: Datasheet; ComponentLink2URL: http://www.ti.com/general/docs/lit/getliterature.tsp?genericPartNumber=TLC5923&fileType=pdf; ComponentLink3Description: Package Specification; ComponentLink3URL: http://www.ti.com/litv/pdf/mpds380
footprint TI-DAP32-3810X3710TP_N (SOIC, 32-Leads, Body 11x6.1mm, Pitch 0.65mm, Thermal Pad 3.71 x3.81mm, IPC Medium Density)
footprint TI-DAP32-3810X3710TP_L (SOIC, 32-Leads, Body 11x6.1mm, Pitch 0.65mm, Thermal Pad 3.71 x3.81mm, IPC High Density)
footprint TI-DAP32-3810X3710TP_M (SOIC, 32-Leads, Body 11x6.1mm, Pitch 0.65mm, Thermal Pad 3.71 x3.81mm, IPC Low Density)
part A pins: 2 BLANK (in) "Blank (Light OFF). When BLANK=H, All OUTx outputs are forced OFF. When BLANK=L, ON/OFF of OUTx outputs are controlled by input data.", 3 XLAT (in) "Data latch. Note that the internal connections are switched by MODE (pin #30). At rising edge of XLAT, the latches selected by MODE get new data.", 4 SCLK (in) "Data shift clock. Note that the internal connections are switched by MODE (pin #30). At rising edge of XLAT, the shift-registers selected by MODE shift the data.", 5 SIN (in) "Data input of serial I/F", 7 OUT0 (out) "Constant current output", 8 OUT1 (out) "Constant current output", 10 OUT2 (out) "Constant current output", 11 OUT3 (out) "Constant current output", 12 OUT4 (out) "Constant current output", 13 OUT5 (out) "Constant current output", 15 OUT6 (out) "Constant current output", 16 OUT7 (out) "Constant current output", 17 OUT8 (out) "Constant current output", 18 OUT9 (out) "Constant current output", 20 OUT10 (out) "Constant current output", 21 OUT11 (out) "Constant current output", 22 OUT12 (out) "Constant current output", 23 OUT13 (out) "Constant current output", 25 OUT14 (out) "Constant current output", 26 OUT15 (out) "Constant current output", 28 SOUT (out) "Data output of serial I/F", 29 XERR (oc) "Error output. XERR is open drain terminal. XERR transistions from H to L when LOD or TEF detected.", 30 MODE (in) "Mode select. When MODE=L, SIN, SOUT, SCLK, XLAT are connected to ON/OFF control logic. When MODE=H, SIN, SOUT, SCLK, XLAT are connected to dot-correction logic.", 31 IREF (in) "Reference current terminal"
part B pins: 1 GND (power) "Ground", 6 PGND (power) "Power ground", 9 PGND (power) "Power ground", 14 PGND (power) "Power ground", 19 PGND (power) "Power ground", 24 PGND (power) "Power ground", 27 PGND (power) "Power ground", 32 VCC (power) "Power supply voltage", 33 EP

## TLC5923DAPR
designator U?
16-Channel LED Driver with DOT Correction, 3 to 5.5 V, -40 to 85 degC, 32-pin SOP (DAP32), Green (RoHS & no Sb/Br); Manufacturer: Texas Instruments; PartNumber: TLC5923DAPR; Rating: Catalog; Vin(Max)(V): 5.5; Vin(Min)(V): 3; DatasheetVersion: SLVS550A; PackageVersion: 4073257-4/E; PackageReference: DAP32-3810X3710TP; PackageDescription: 32-pin Plastic Small Outline, Body 11 x 6.1 mm, Pitch 0.65 mm; Supplier 1: Digi-Key; Supplier Part Number 1: 296-28000-2-ND; Supplier 2: Digi-Key; Supplier Part Number 2: 296-28000-1-ND; Supplier 3: Digi-Key; Supplier Part Number 3: 296-28000-6-ND; Supplier 4: Newark; Supplier Part Number 4: 08K4865; Supplier 5: Mouser; Supplier Part Number 5: 595-TLC5923DAPR; Eco-Plan: Green (RoHS & no Sb/Br); SubFamily: LED Driver; Mounting Technology: Surface Mount; Code_JEDEC: MO-153; ComponentLink1Description: Manufacturer URL; ComponentLink1URL: http://www.ti.com/; ComponentLink2Description: Datasheet; ComponentLink2URL: http://www.ti.com/general/docs/lit/getliterature.tsp?genericPartNumber=TLC5923&fileType=pdf; ComponentLink3Description: Package Specification; ComponentLink3URL: http://www.ti.com/litv/pdf/mpds380
footprint TI-DAP32-3810X3710TP_N (SOIC, 32-Leads, Body 11x6.1mm, Pitch 0.65mm, Thermal Pad 3.71 x3.81mm, IPC Medium Density)
footprint TI-DAP32-3810X3710TP_L (SOIC, 32-Leads, Body 11x6.1mm, Pitch 0.65mm, Thermal Pad 3.71 x3.81mm, IPC High Density)
footprint TI-DAP32-3810X3710TP_M (SOIC, 32-Leads, Body 11x6.1mm, Pitch 0.65mm, Thermal Pad 3.71 x3.81mm, IPC Low Density)
part A pins: 2 BLANK (in) "Blank (Light OFF). When BLANK=H, All OUTx outputs are forced OFF. When BLANK=L, ON/OFF of OUTx outputs are controlled by input data.", 3 XLAT (in) "Data latch. Note that the internal connections are switched by MODE (pin #30). At rising edge of XLAT, the latches selected by MODE get new data.", 4 SCLK (in) "Data shift clock. Note that the internal connections are switched by MODE (pin #30). At rising edge of XLAT, the shift-registers selected by MODE shift the data.", 5 SIN (in) "Data input of serial I/F", 7 OUT0 (out) "Constant current output", 8 OUT1 (out) "Constant current output", 10 OUT2 (out) "Constant current output", 11 OUT3 (out) "Constant current output", 12 OUT4 (out) "Constant current output", 13 OUT5 (out) "Constant current output", 15 OUT6 (out) "Constant current output", 16 OUT7 (out) "Constant current output", 17 OUT8 (out) "Constant current output", 18 OUT9 (out) "Constant current output", 20 OUT10 (out) "Constant current output", 21 OUT11 (out) "Constant current output", 22 OUT12 (out) "Constant current output", 23 OUT13 (out) "Constant current output", 25 OUT14 (out) "Constant current output", 26 OUT15 (out) "Constant current output", 28 SOUT (out) "Data output of serial I/F", 29 XERR (oc) "Error output. XERR is open drain terminal. XERR transistions from H to L when LOD or TEF detected.", 30 MODE (in) "Mode select. When MODE=L, SIN, SOUT, SCLK, XLAT are connected to ON/OFF control logic. When MODE=H, SIN, SOUT, SCLK, XLAT are connected to dot-correction logic.", 31 IREF (in) "Reference current terminal"
part B pins: 1 GND (power) "Ground", 6 PGND (power) "Power ground", 9 PGND (power) "Power ground", 14 PGND (power) "Power ground", 19 PGND (power) "Power ground", 24 PGND (power) "Power ground", 27 PGND (power) "Power ground", 32 VCC (power) "Power supply voltage", 33 EP

## TLC5923DAPRG4
designator U?
16-Channel LED Driver with DOT Correction, 3 to 5.5 V, -40 to 85 degC, 32-pin SOP (DAP32), Green (RoHS & no Sb/Br); Manufacturer: Texas Instruments; PartNumber: TLC5923DAPRG4; Rating: Catalog; Vin(Max)(V): 5.5; Vin(Min)(V): 3; DatasheetVersion: SLVS550A; PackageVersion: 4073257-4/E; PackageReference: DAP32-3810X3710TP; PackageDescription: 32-pin Plastic Small Outline, Body 11 x 6.1 mm, Pitch 0.65 mm; Supplier 1: Digi-Key; Supplier Part Number 1: TLC5923DAPRG4-ND; Supplier 2: Newark; Supplier Part Number 2: 58K6743; Supplier 3: Mouser; Supplier Part Number 3: 595-TLC5923DAPRG4; Eco-Plan: Green (RoHS & no Sb/Br); SubFamily: LED Driver; Mounting Technology: Surface Mount; Code_JEDEC: MO-153; ComponentLink1Description: Manufacturer URL; ComponentLink1URL: http://www.ti.com/; ComponentLink2Description: Datasheet; ComponentLink2URL: http://www.ti.com/general/docs/lit/getliterature.tsp?genericPartNumber=TLC5923&fileType=pdf; ComponentLink3Description: Package Specification; ComponentLink3URL: http://www.ti.com/litv/pdf/mpds380
footprint TI-DAP32-3810X3710TP_N (SOIC, 32-Leads, Body 11x6.1mm, Pitch 0.65mm, Thermal Pad 3.71 x3.81mm, IPC Medium Density)
footprint TI-DAP32-3810X3710TP_L (SOIC, 32-Leads, Body 11x6.1mm, Pitch 0.65mm, Thermal Pad 3.71 x3.81mm, IPC High Density)
footprint TI-DAP32-3810X3710TP_M (SOIC, 32-Leads, Body 11x6.1mm, Pitch 0.65mm, Thermal Pad 3.71 x3.81mm, IPC Low Density)
part A pins: 2 BLANK (in) "Blank (Light OFF). When BLANK=H, All OUTx outputs are forced OFF. When BLANK=L, ON/OFF of OUTx outputs are controlled by input data.", 3 XLAT (in) "Data latch. Note that the internal connections are switched by MODE (pin #30). At rising edge of XLAT, the latches selected by MODE get new data.", 4 SCLK (in) "Data shift clock. Note that the internal connections are switched by MODE (pin #30). At rising edge of XLAT, the shift-registers selected by MODE shift the data.", 5 SIN (in) "Data input of serial I/F", 7 OUT0 (out) "Constant current output", 8 OUT1 (out) "Constant current output", 10 OUT2 (out) "Constant current output", 11 OUT3 (out) "Constant current output", 12 OUT4 (out) "Constant current output", 13 OUT5 (out) "Constant current output", 15 OUT6 (out) "Constant current output", 16 OUT7 (out) "Constant current output", 17 OUT8 (out) "Constant current output", 18 OUT9 (out) "Constant current output", 20 OUT10 (out) "Constant current output", 21 OUT11 (out) "Constant current output", 22 OUT12 (out) "Constant current output", 23 OUT13 (out) "Constant current output", 25 OUT14 (out) "Constant current output", 26 OUT15 (out) "Constant current output", 28 SOUT (out) "Data output of serial I/F", 29 XERR (oc) "Error output. XERR is open drain terminal. XERR transistions from H to L when LOD or TEF detected.", 30 MODE (in) "Mode select. When MODE=L, SIN, SOUT, SCLK, XLAT are connected to ON/OFF control logic. When MODE=H, SIN, SOUT, SCLK, XLAT are connected to dot-correction logic.", 31 IREF (in) "Reference current terminal"
part B pins: 1 GND (power) "Ground", 6 PGND (power) "Power ground", 9 PGND (power) "Power ground", 14 PGND (power) "Power ground", 19 PGND (power) "Power ground", 24 PGND (power) "Power ground", 27 PGND (power) "Power ground", 32 VCC (power) "Power supply voltage", 33 EP

## TLC5923RHBR
designator U?
16-Channel LED Driver with DOT Correction, 3 to 5.5 V, -40 to 85 degC, 32-pin QFN (RHB32), Green (RoHS & no Sb/Br); Manufacturer: Texas Instruments; PartNumber: TLC5923RHBR; Rating: Catalog; Vin(Max)(V): 5.5; Vin(Min)(V): 3; DatasheetVersion: SLVS550A; PackageVersion: 4204326/D; PackageReference: RHB32-3450X3450TP; PackageDescription: 32-Pin Plastic Flat Pack, Body 5 x 5 mm, Pitch 0.5 mm; Supplier 1: Digi-Key; Supplier Part Number 1: TLC5923RHBR-ND; Supplier 2: Newark; Supplier Part Number 2: 67K8505; Supplier 3: Mouser; Supplier Part Number 3: 595-TLC5923RHBR; Eco-Plan: Green (RoHS & no Sb/Br); SubFamily: LED Driver; Mounting Technology: Surface Mount; Code_JEDEC: MO-220; ComponentLink1Description: Manufacturer URL; ComponentLink1URL: http://www.ti.com/; ComponentLink2Description: Datasheet; ComponentLink2URL: http://www.ti.com/general/docs/lit/getliterature.tsp?genericPartNumber=TLC5923&fileType=pdf; ComponentLink3Description: Package Specification; ComponentLink3URL: http://www.ti.com/lit/ml/mpqf130c/mpqf130c.pdf
footprint TI-RHB32-3450X3450TP_V (QFN, 32-Leads, Body 5x5mm, Pitch 0.5mm, Thermal Pad 3.45x3.45mm)
part A pins: 1 SIN (in) "Data input of serial I/F", 3 OUT0 (out) "Constant current output", 4 OUT1 (out) "Constant current output", 6 OUT2 (out) "Constant current output", 7 OUT3 (out) "Constant current output", 8 OUT4 (out) "Constant current output", 9 OUT5 (out) "Constant current output", 11 OUT6 (out) "Constant current output", 12 OUT7 (out) "Constant current output", 13 OUT8 (out) "Constant current output", 14 OUT9 (out) "Constant current output", 16 OUT10 (out) "Constant current output", 17 OUT11 (out) "Constant current output", 18 OUT12 (out) "Constant current output", 19 OUT13 (out) "Constant current output", 21 OUT14 (out) "Constant current output", 22 OUT15 (out) "Constant current output", 24 SOUT (out) "Data output of serial I/F", 25 XERR (oc) "Error output. XERR is open drain terminal. XERR transistions from H to L when LOD or TEF detected.", 26 MODE (in) "Mode select. When MODE=L, SIN, SOUT, SCLK, XLAT are connected to ON/OFF control logic. When MODE=H, SIN, SOUT, SCLK, XLAT are connected to dot-correction logic.", 27 IREF (in) "Reference current terminal", 30 BLANK (in) "Blank (Light OFF). When BLANK=H, All OUTx outputs are forced OFF. When BLANK=L, ON/OFF of OUTx outputs are controlled by input data.", 31 XLAT (in) "Data latch. Note that the internal connections are switched by MODE (pin #30). At rising edge of XLAT, the latches selected by MODE get new data.", 32 SCLK (in) "Data shift clock. Note that the internal connections are switched by MODE (pin #30). At rising edge of XLAT, the shift-registers selected by MODE shift the data."
part B pins: 2 PGND (power) "Power ground", 5 PGND (power) "Power ground", 10 PGND (power) "Power ground", 15 PGND (power) "Power ground", 20 PGND (power) "Power ground", 23 PGND (power) "Power ground", 28 VCC (power) "Power supply voltage", 29 GND (power) "Ground", 33 EP "Exposed Thermal Pad"